# Altium footprint library PCB - BUZZER - CUI CSS-0575A-SMT-TR.PCBLIB: 1 footprints
Each footprint in its own frame and in the unit in brackets; x right, y up, seen from the top. Pads: shape width x height; smd on the part's side, far side on the other; paste and mask are expansions set on the pad; w line width, h text height; cw(c..) or ccw(c..) is an arc to the next point about the centre after c.
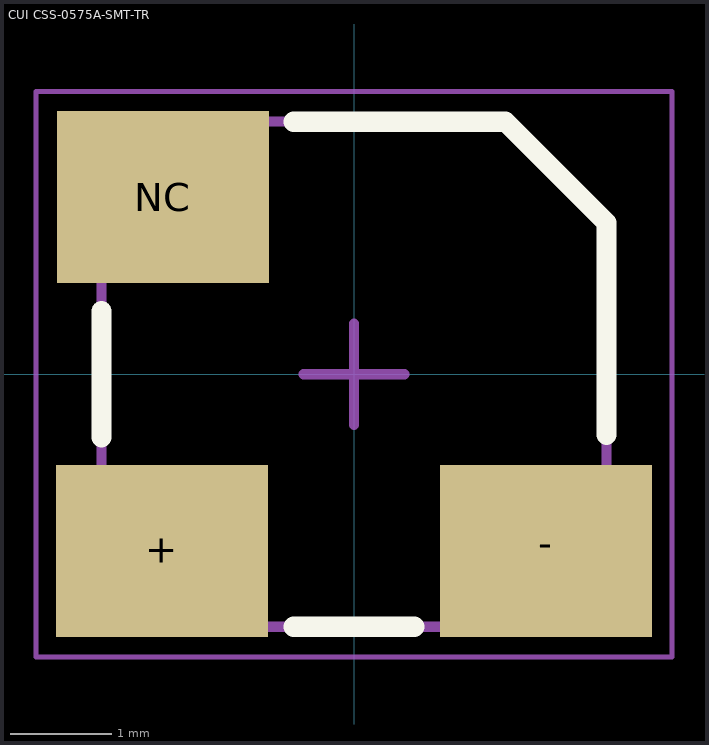
[diagram p0: the footprint, top view; thin cyan lines are the x and y axes]

## CUI CSS-0575A-SMT-TR [mm] "Buzzer 5x5mm"
height 2
pads (3):
  rect 2.1x1.7 smd: +(-1.9,-1.75) -(1.9,-1.75) NC(-1.892,1.754)
Top Overlay:
  lines w0.2: -2.5,-0.625 -2.5,0.625 ; -0.6,-2.5 0.6,-2.5 ; -0.6,2.5 1.5,2.5 2.5,1.5 2.5,-0.6
Mechanical 13:
  lines w0.1: -2.5,-2.5 2.5,-2.5 2.5,1.5 1.5,2.5 -2.5,2.5 -2.5,-2.5
Mechanical 15:
  lines w0.05: -3.15,-2.8 3.15,-2.8 3.15,2.8 -3.15,2.8 -3.15,-2.8
  lines w0.1: -0.5,0 0.5,0 ; 0,-0.5 0,0.5
3D body "CUI - CSS-0575A-SMT.step": height 2, standoff 0, extent -2.5,-2.5 2.5,2.5